# Altium integrated library Uai!Tecas.IntLib: 3 symbols
Pins are listed as number, name and electrical type; pins without a type are passive.

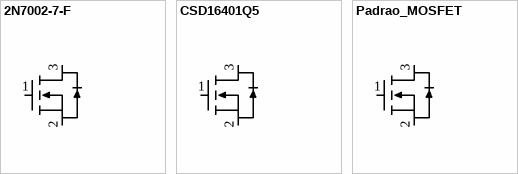
[diagram p0: symbols 2N7002-7-F to Padrao_MOSFET]

## 2N7002-7-F
designator Q?  (value not drawn)
MOSFET Type N; Part Number: 2N7002-7-F; FET Type: N-Channel; Power - Max: 540 mW; Rds On (Max) @ Id, Vgs: 5 ohm @ 210mA, 20V; Input Capacitance (Ciss) (Max) @ Vds: 22pF; Drain to Source Voltage (Vdss): 60V; Current - Continuous Drain (Id) @ 25 °C: 210mA; Gate Charge (Qg) (Max) @ Vgs: 223pC @ 4.5V; Price: 0.20; Package/Case: SOT-23-3; Operating Temperature: 150 C; Supplier Part Number 1: 621-2N7002-F; Library Control - Checked Footprint: *; Library Control - Last Project that Used: *; Library Control - Last Update: *; Library Control - Person that Checked Footprint: *; Library Control - Person that Cheked Schematic: *; Library Control - Person that did the Last Update Footprint: *; Library Control - Person that did the Last Update Schematic: *; ComponentLink1Description: Datasheet; ComponentLink1URL: https://www.mouser.com/datasheet/2/115/2N7002-1591994.pdf; ComponentLink2Description: Mouser Link; ComponentLink2URL: https://www.mouser.com/ProductDetail/Diodes-Incorporated/2N7002-7-F?qs=%2Fha2pyFadugo8BbqEmDB8lzlZH6QdgQJut9pp8zbUks%3D
pins: 1, 2, 3

## CSD16401Q5
designator Q?  (value not drawn)
pins: 1, 2, 3

## Padrao_MOSFET
designator Q?  (value not drawn)
Part Number: *; FET Type: *; Price: *; Package/Case: *; Operating Temperature: *; Power - Max: *; Rds On (Max) @ Id, Vgs: *; Input Capacitance (Ciss) (Max) @ Vds: *; Drain to Source Voltage (Vdss): *; Supplier Part Number 1: *; Current - Continuous Drain (Id) @ 25 °C: *; Gate Charge (Qg) (Max) @ Vgs: *; Library Control - Checked Footprint: *; Library Control - Last Project that Used: *; Library Control - Last Update: *; Library Control - Person that Checked Footprint: *; Library Control - Person that Cheked Schematic: *; Library Control - Person that did the Last Update Footprint: *; Library Control - Person that did the Last Update Schematic: *; ComponentLink1Description: Datasheet; ComponentLink1URL: *; ComponentLink2Description: Mouser Link; ComponentLink2URL: *
pins: 1, 2, 3